# Altium footprint library Resistors.PcbLib: 10 footprints
Each footprint in its own frame and in the unit in brackets; x right, y up, seen from the top. Pads: shape width x height; smd on the part's side, far side on the other; paste and mask are expansions set on the pad; w line width, h text height; cw(c..) or ccw(c..) is an arc to the next point about the centre after c.
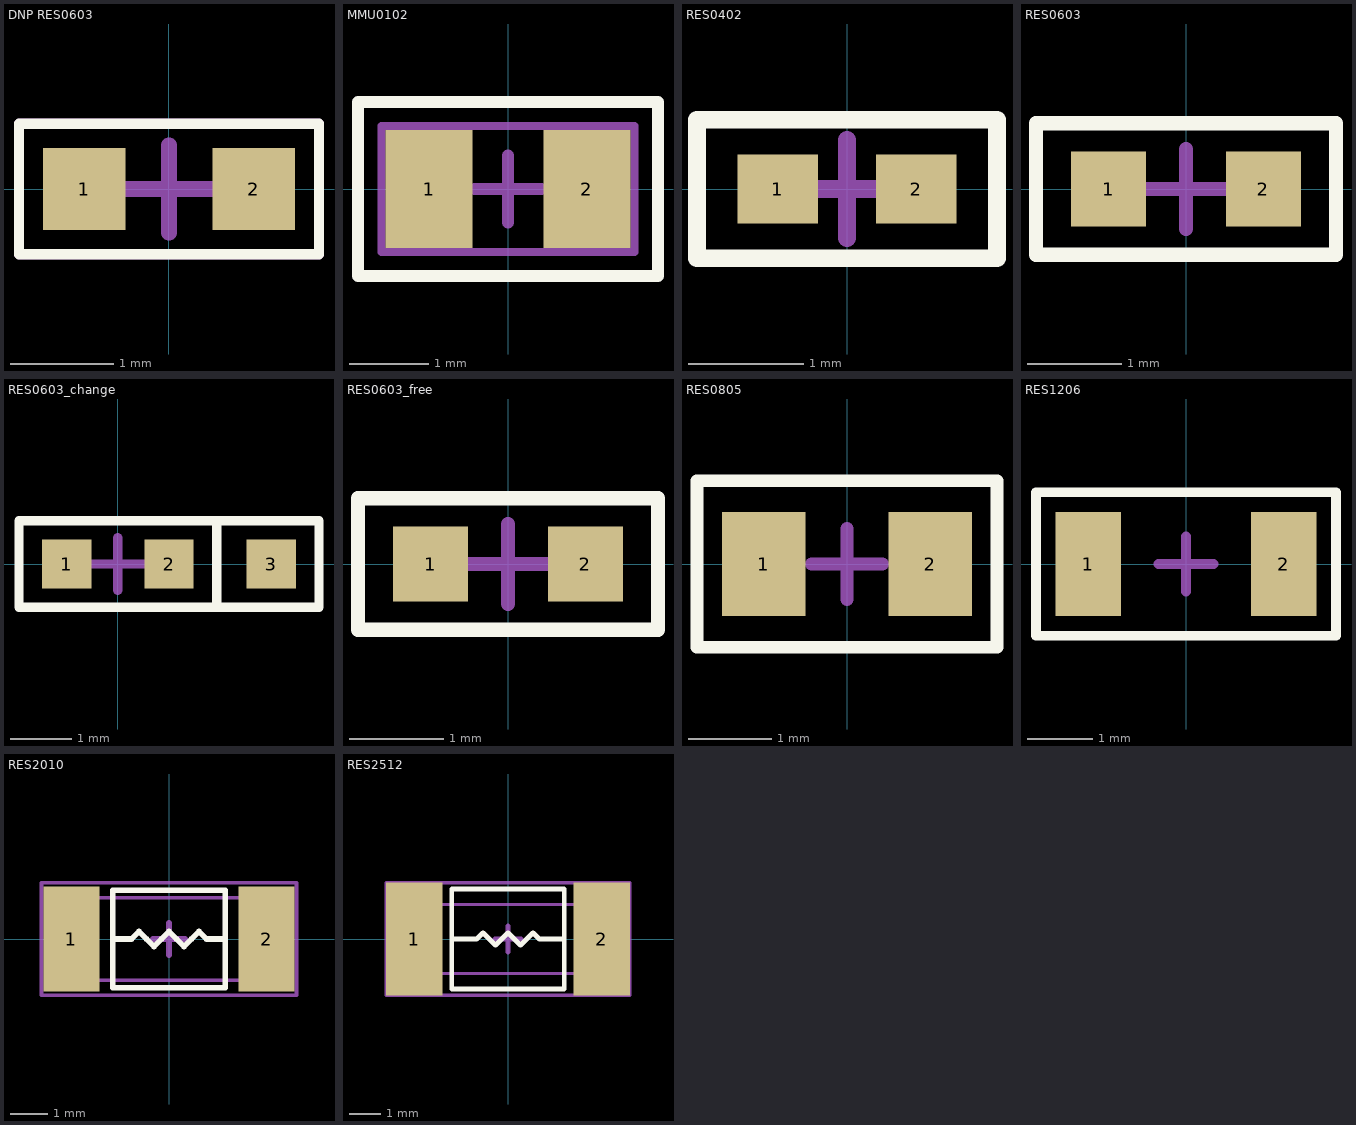
[diagram p0: the footprints below, top view; thin cyan lines are the x and y axes]

## DNP RES0603 [mm]
pads (2):
  rect 0.8x0.8 smd: 1(-0.825,0) 2(0.825,0)
Top Overlay:
  lines w0.1: -1.46,-0.635 1.461,-0.635 1.461,0.635 -1.46,0.635 -1.46,-0.635
Top Assembly:
  lines w0.1: -1.46,-0.635 1.461,-0.635 1.461,0.635 -1.46,0.635 -1.46,-0.635
  text "'.Designator'" at -1.322,1.07 h0.8
Top Courtyard:
  lines w0.1: -1.46,-0.635 -1.46,0.635 1.461,0.635 1.461,-0.635 -1.46,-0.635
  lines w0.153: -0.425,0 0.425,0 ; 0,-0.425 0,0.425

## MMU0102 [mm]
pads (2):
  rect 1.1x1.5 smd: 1(-1,0) 2(1,0)
Top Overlay:
  lines w0.153: -1.9,-1.1 1.9,-1.1 1.9,1.1 -1.9,1.1 -1.9,-1.1
Top Assembly:
  lines w0.1: -1.9,-1.1 -1.9,1.1 1.9,1.1 1.9,-1.1 -1.9,-1.1
  text "'.Designator'" at -1.647,1.32 h0.8
Top Courtyard:
  lines w0.1: -1.6,-0.8 1.6,-0.8 1.6,0.8 -1.6,0.8 -1.6,-0.8
  lines w0.153: -0.425,0 0.425,0 ; 0,-0.425 0,0.425
3D body "mmu01020c1103fb300.stp": height 1.1, standoff 0, extent -1.1,-0.548 1.1,0.55

## RES0402 [mm]
pads (2):
  rect 0.7x0.6 smd: 1(-0.6,0) 2(0.6,0)
Top Overlay:
  lines w0.153: -1.3,-0.6 -1.3,0.6 1.3,0.6 1.3,-0.6 -1.3,-0.6
Top Assembly:
  lines w0.1: -1.3,-0.6 -1.3,0.6 1.3,0.6 1.3,-0.6 -1.3,-0.6
  text "'.Designator'" at -1.322,1.07 h0.8
Top Courtyard:
  lines w0.1: -1.3,-0.6 1.3,-0.6 1.3,0.6 -1.3,0.6 -1.3,-0.6
  lines w0.153: -0.425,0 0.425,0 ; 0,-0.425 0,0.425
3D body "R0402.STEP": height 0.37, standoff 0.02, extent -0.5,-0.25 0.5,0.25

## RES0603 [mm]
pads (2):
  rect 0.8x0.8 smd: 1(-0.825,0) 2(0.825,0)
Top Overlay:
  lines w0.153: -1.6,-0.7 -1.6,0.7 1.6,0.7 1.6,-0.7 -1.6,-0.7
Top Assembly:
  lines w0.1: -1.6,-0.7 -1.6,0.7 1.6,0.7 1.6,-0.7 -1.6,-0.7
  text "'.Designator'" at -1.322,1.07 h0.8
Top Courtyard:
  lines w0.1: -1.6,-0.7 1.6,-0.7 1.6,0.7 -1.6,0.7 -1.6,-0.7
  lines w0.153: -0.425,0 0.425,0 ; 0,-0.425 0,0.425
3D body "CircuitWorks-RESISTOR 0603.STEP": height 0.48, standoff -0.03, extent -0.863,-0.43 0.737,0.43

## RES0603_change [mm]
pads (3):
  rect 0.8x0.8 smd: 1(-0.825,0) 2(0.825,0) 3(2.475,0)
Top Overlay:
  lines w0.153: 1.6,-0.7 -1.6,-0.7 -1.6,0.7 1.6,0.7 ; 1.6,-0.7 1.6,0.7 ; 1.6,-0.7 3.25,-0.7 3.25,0.7 1.6,0.7
Top Assembly:
  lines w0.1: -1.6,-0.7 -1.6,0.7 1.6,0.7 1.6,-0.7 -1.6,-0.7
  text "'.Designator'" at -1.322,1.07 h0.8
Top Courtyard:
  lines w0.1: -1.6,-0.7 1.6,-0.7 1.6,0.7 -1.6,0.7 -1.6,-0.7
  lines w0.153: -0.425,0 0.425,0 ; 0,-0.425 0,0.425
3D body "CircuitWorks-RESISTOR 0603.STEP": height 0.48, standoff -0.03, extent -0.863,-0.43 0.737,0.43

## RES0603_free [mm]
pads (2):
  rect 0.8x0.8 smd: 1(-0.825,0) 2(0.825,0)
Top Overlay:
  lines w0.153: -1.6,-0.7 -1.6,0.7 1.6,0.7 1.6,-0.7 -1.6,-0.7
Top Assembly:
  lines w0.1: -1.6,-0.7 -1.6,0.7 1.6,0.7 1.6,-0.7 -1.6,-0.7
  text "'.Designator'" at -1.322,1.07 h0.8
Top Courtyard:
  lines w0.1: -1.6,-0.7 1.6,-0.7 1.6,0.7 -1.6,0.7 -1.6,-0.7
  lines w0.153: -0.425,0 0.425,0 ; 0,-0.425 0,0.425

## RES0805 [mm]
pads (2):
  rect 1x1.25 smd: 1(-1,0) 2(1,0)
Top Overlay:
  lines w0.153: -1.8,-1 -1.8,1 1.8,1 1.8,-1 -1.8,-1
Top Assembly:
  lines w0.1: -1.8,-1 1.8,-1 1.8,1 -1.8,1 -1.8,-1
  text "'.Designator'" at -1.647,1.32 h0.8
Top Courtyard:
  lines w0.1: -1.8,-1 -1.8,1 1.8,1 1.8,-1 -1.8,-1
  lines w0.153: -0.425,0 0.425,0 ; 0,-0.425 0,0.425
3D body "CircuitWorks-RESISTOR 0805.STEP": height 0.43, standoff -0.03, extent -1,-0.63 1,0.63

## RES1206 [mm]
pads (2):
  rect 1x1.6 smd: 1(-1.5,0) 2(1.5,0)
Top Overlay:
  lines w0.153: -2.3,-1.1 2.3,-1.1 2.3,1.1 -2.3,1.1 -2.3,-1.1
Top Assembly:
  lines w0.1: -2.3,-1.1 2.3,-1.1 2.3,1.1 -2.3,1.1 -2.3,-1.1
  text "'.Designator'" at -2.147,1.52 h0.8
Top Courtyard:
  lines w0.1: -2.3,-1.1 2.3,-1.1 2.3,1.1 -2.3,1.1 -2.3,-1.1
  lines w0.153: -0.425,0 0.425,0 ; 0,-0.425 0,0.425
3D body "CircuitWorks-RESISTOR 1206.STEP": height 0.53, standoff -0.03, extent -1.6,-0.83 1.6,0.83

## RES2010 [mm]
pads (2):
  rect 1.5x2.8 smd: 1(-2.6,0) 2(2.6,0)
Top Overlay:
  lines w0.153: -1.5,0 -1,0 -0.8,0.2 -0.6,0 -0.4,-0.2 -0.2,0 0,0.2 0.2,0 0.4,-0.2 0.6,0 0.8,0.2 1,0 1.5,0 ; -1.5,-1.3 1.5,-1.3 1.5,1.3 -1.5,1.3 -1.5,-1.3
Top Assembly:
  lines w0.1: -2.3,-1.1 2.3,-1.1 2.3,1.1 -2.3,1.1 -2.3,-1.1
  text "'.Designator'" at -2.147,1.52 h0.8
Top Courtyard:
  lines w0.1: -3.4,-1.5 3.4,-1.5 3.4,1.5 -3.4,1.5 -3.4,-1.5
  lines w0.153: -0.425,0 0.425,0 ; 0,-0.425 0,0.425
3D body "User Library-R_2010.STEP": height 0.6, standoff 0, extent -2.5,-1.25 2.5,1.25

## RES2512 [mm]
pads (2):
  rect 1.8x3.6 smd: 1(-3,0) 2(3,0)
Top Overlay:
  lines w0.153: -1.7,0 -1,0 -0.8,0.2 -0.6,0 -0.4,-0.2 -0.2,0 0,0.2 0.2,0 0.4,-0.2 0.6,0 0.8,0.2 1,0 1.8,0 ; -1.8,-1.6 -1.8,1.6 1.8,1.6 1.8,-1.6 -1.8,-1.6
Top Assembly:
  lines w0.1: -2.3,-1.1 -2.3,1.1 2.3,1.1 2.3,-1.1 -2.3,-1.1
  text "'.Designator'" at -2.147,1.52 h0.8
Top Courtyard:
  lines w0.1: -3.9,-1.8 -3.9,1.8 3.9,1.8 3.9,-1.8 -3.9,-1.8
  lines w0.153: -0.425,0 0.425,0 ; 0,-0.425 0,0.425
3D body "User Library-RESC6432X06.STEP": height 0.6, standoff 0, extent -3.2,-1.6 3.2,1.6